# Altium schematic symbol library IC_74xx04_2.SchLib: 1 symbol
Pins are listed as number, name and electrical type; pins without a type are passive.

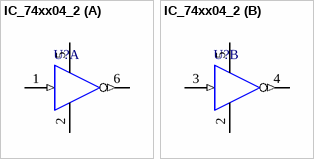
[diagram p0: symbol IC_74xx04_2]

## IC_74xx04_2
designator U?
Dual Inverter
pins on every part: 2 GND (power), 5 VCC (power)
part A pins: 1 A (in), 6 ~{O} (out)
part B pins: 3 A (in), 4 ~{O} (out)